# Altium schematic symbol library MCU_ST_STM32L5.SchLib: 44 symbols (part 2 of 2)
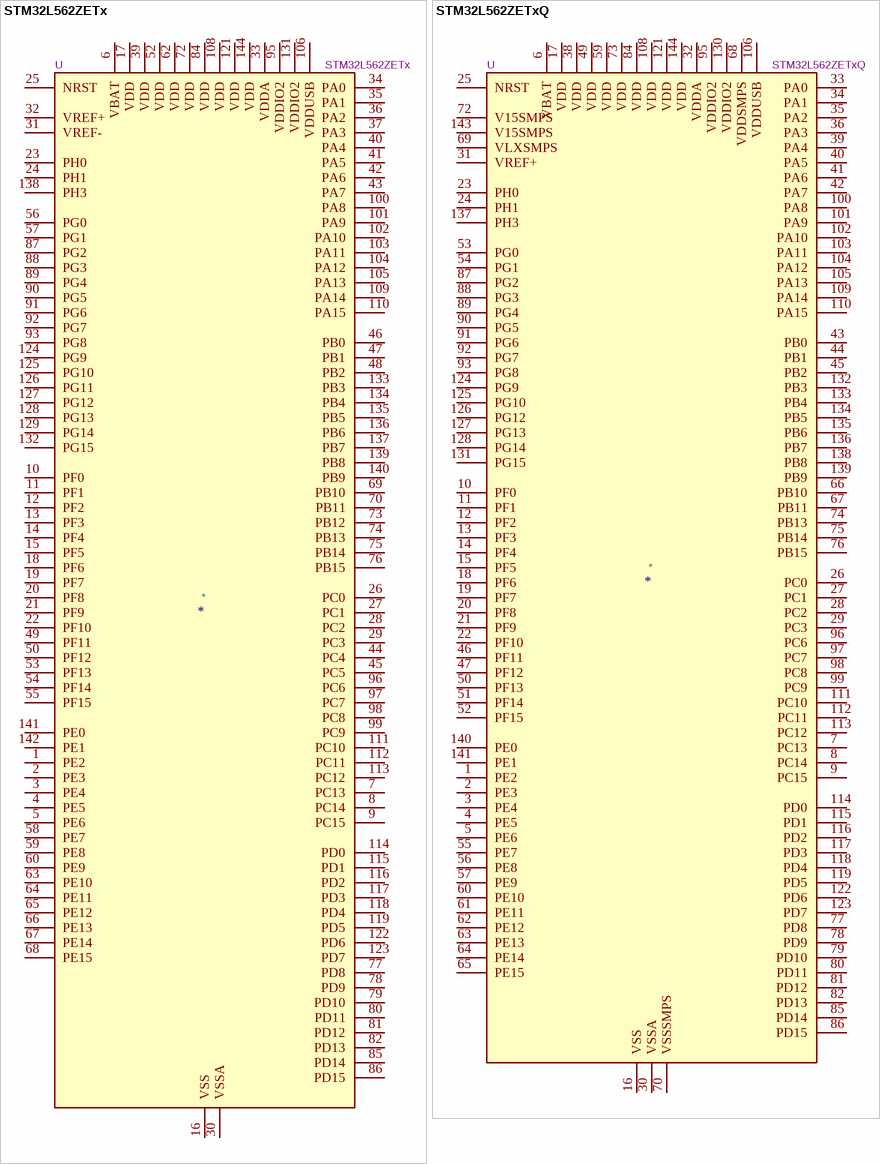
[diagram p9: symbols STM32L562ZETx to STM32L562ZETxQ]

## STM32L562ZETx
designator *  value STM32L562ZETx  Reference: U
ki_keywords: Arm Cortex-M33 STM32L5 STM32L5x2; ki_description: STMicroelectronics Arm Cortex-M33 MCU, 512KB flash, 256KB RAM, 110 MHz, 1.71-3.6V, 115 GPIO, LQFP144; ki_fp_filters: LQFP*20x20mm*P0.5mm*; Footprint: Package_QFP:LQFP-144_20x20mm_P0.5mm; Datasheet: https://www.st.com/resource/en/datasheet/stm32l562ze.pdf
pins: 1 PE2, 2 PE3, 3 PE4, 4 PE5, 5 PE6, 6 VBAT, 7 PC13, 8 PC14, 9 PC15, 10 PF0, 11 PF1, 12 PF2, 13 PF3, 14 PF4, 15 PF5, 16 VSS, 17 VDD, 18 PF6, 19 PF7, 20 PF8, 21 PF9, 22 PF10, 23 PH0, 24 PH1, 25 NRST, 26 PC0, 27 PC1, 28 PC2, 29 PC3, 30 VSSA, 31 VREF-, 32 VREF+, 33 VDDA, 34 PA0, 35 PA1, 36 PA2, 37 PA3, 38 VSS hidden, 39 VDD, 40 PA4, 41 PA5, 42 PA6, 43 PA7, 44 PC4, 45 PC5, 46 PB0, 47 PB1, 48 PB2, 49 PF11, 50 PF12, 51 VSS hidden, 52 VDD, 53 PF13, 54 PF14, 55 PF15, 56 PG0, 57 PG1, 58 PE7, 59 PE8, 60 PE9, 61 VSS hidden, 62 VDD, 63 PE10, 64 PE11, 65 PE12, 66 PE13, 67 PE14, 68 PE15, 69 PB10, 70 PB11, 71 VSS hidden, 72 VDD, 73 PB12, 74 PB13, 75 PB14, 76 PB15, 77 PD8, 78 PD9, 79 PD10, 80 PD11, 81 PD12, 82 PD13, 83 VSS hidden, 84 VDD, 85 PD14, 86 PD15, 87 PG2, 88 PG3, 89 PG4, 90 PG5, 91 PG6, 92 PG7, 93 PG8, 94 VSS hidden, 95 VDDIO2, 96 PC6, 97 PC7, 98 PC8, 99 PC9, 100 PA8, 101 PA9, 102 PA10, 103 PA11, 104 PA12, 105 PA13, 106 VDDUSB, 107 VSS hidden, 108 VDD, 109 PA14, 110 PA15, 111 PC10, 112 PC11, 113 PC12, 114 PD0, 115 PD1, 116 PD2, 117 PD3, 118 PD4, 119 PD5, 120 VSS hidden, 121 VDD, 122 PD6, 123 PD7, 124 PG9, 125 PG10, 126 PG11, 127 PG12, 128 PG13, 129 PG14, 130 VSS hidden, 131 VDDIO2, 132 PG15, 133 PB3, 134 PB4, 135 PB5, 136 PB6, 137 PB7, 138 PH3, 139 PB8, 140 PB9, 141 PE0, 142 PE1, 143 VSS hidden, 144 VDD

## STM32L562ZETxQ
designator *  value STM32L562ZETxQ  Reference: U
ki_keywords: Arm Cortex-M33 STM32L5 STM32L5x2; ki_description: STMicroelectronics Arm Cortex-M33 MCU, 512KB flash, 256KB RAM, 110 MHz, 1.71-3.6V, 111 GPIO, LQFP144; ki_fp_filters: LQFP*20x20mm*P0.5mm*; Footprint: Package_QFP:LQFP-144_20x20mm_P0.5mm; Datasheet: https://www.st.com/resource/en/datasheet/stm32l562ze.pdf
pins: 1 PE2, 2 PE3, 3 PE4, 4 PE5, 5 PE6, 6 VBAT, 7 PC13, 8 PC14, 9 PC15, 10 PF0, 11 PF1, 12 PF2, 13 PF3, 14 PF4, 15 PF5, 16 VSS, 17 VDD, 18 PF6, 19 PF7, 20 PF8, 21 PF9, 22 PF10, 23 PH0, 24 PH1, 25 NRST, 26 PC0, 27 PC1, 28 PC2, 29 PC3, 30 VSSA, 31 VREF+, 32 VDDA, 33 PA0, 34 PA1, 35 PA2, 36 PA3, 37 VSS hidden, 38 VDD, 39 PA4, 40 PA5, 41 PA6, 42 PA7, 43 PB0, 44 PB1, 45 PB2, 46 PF11, 47 PF12, 48 VSS hidden, 49 VDD, 50 PF13, 51 PF14, 52 PF15, 53 PG0, 54 PG1, 55 PE7, 56 PE8, 57 PE9, 58 VSS hidden, 59 VDD, 60 PE10, 61 PE11, 62 PE12, 63 PE13, 64 PE14, 65 PE15, 66 PB10, 67 PB11, 68 VDDSMPS, 69 VLXSMPS, 70 VSSSMPS, 71 VSS hidden, 72 V15SMPS, 73 VDD, 74 PB13, 75 PB14, 76 PB15, 77 PD8, 78 PD9, 79 PD10, 80 PD11, 81 PD12, 82 PD13, 83 VSS hidden, 84 VDD, 85 PD14, 86 PD15, 87 PG2, 88 PG3, 89 PG4, 90 PG5, 91 PG6, 92 PG7, 93 PG8, 94 VSS hidden, 95 VDDIO2, 96 PC6, 97 PC7, 98 PC8, 99 PC9, 100 PA8, 101 PA9, 102 PA10, 103 PA11, 104 PA12, 105 PA13, 106 VDDUSB, 107 VSS hidden, 108 VDD, 109 PA14, 110 PA15, 111 PC10, 112 PC11, 113 PC12, 114 PD0, 115 PD1, 116 PD2, 117 PD3, 118 PD4, 119 PD5, 120 VSS hidden, 121 VDD, 122 PD6, 123 PD7, 124 PG9, 125 PG10, 126 PG12, 127 PG13, 128 PG14, 129 VSS hidden, 130 VDDIO2, 131 PG15, 132 PB3, 133 PB4, 134 PB5, 135 PB6, 136 PB7, 137 PH3, 138 PB8, 139 PB9, 140 PE0, 141 PE1, 142 VSS hidden, 143 V15SMPS, 144 VDD